# EAGLE library part PENTANOISE (library electricdruid)
PentaNoise Generator
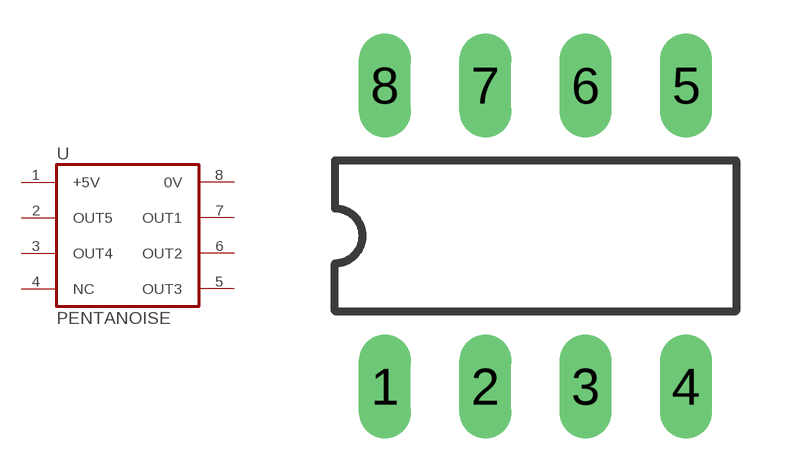
[diagram p0: symbol with the pads of DIL08; footprint DIL08]

Designator prefix U

## PENTANOISE  [DIL08]
1  +5V  pwr
2  OUT5  pas
3  OUT4  pas
4  NC  nc
5  OUT3  pas
6  OUT2  pas
7  OUT1  pas
8  0V  pwr

## Footprint DIL08 (pad centres in mm)
Dual In Line Package
drill 0.813 long: 1 -3.81,-3.81; 2 -1.27,-3.81; 3 1.27,-3.81; 4 3.81,-3.81; 5 3.81,3.81; 6 1.27,3.81; 7 -1.27,3.81; 8 -3.81,3.81